# EAGLE library part IMU (library quadparts_michael)
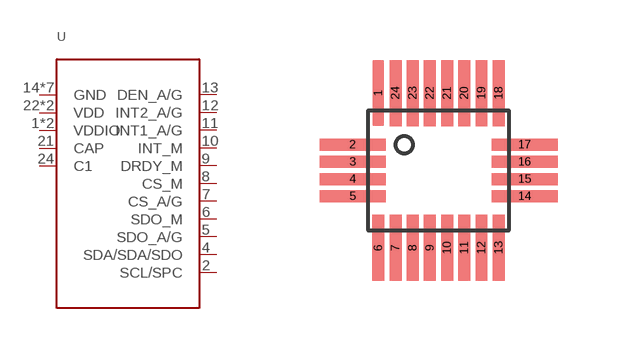
[diagram p0: symbol with the pads of IMU_LSM9DS1TR; footprint IMU_LSM9DS1TR]

Designator prefix -

## IMU (CREATOR: Michael M. Gonzalez; DIST: Digikey; DISTPN: 497-14946-1-ND; MFR: STMicroelectronics; MPN: LSM9DS1TR)  [IMU_LSM9DS1TR]
1  VDDIO
2  SCL/SPC
3  VDDIO
4  SDA/SDA/SDO
5  SDO_A/G
6  SDO_M
7  CS_A/G
8  CS_M
9  DRDY_M
10  INT_M
11  INT1_A/G
12  INT2_A/G
13  DEN_A/G
14  GND
15  GND
16  GND
17  GND
18  GND
19  GND
20  GND
21  CAP
22  VDD
23  VDD
24  C1

## Footprint IMU_LSM9DS1TR (pad centres in mm)
smd 0.3 x 1.65: 1 -1.129,1.827; 6 -1.129,-2.042; 7 -0.699,-2.042; 8 -0.269,-2.042; 9 0.161,-2.042; 10 0.591,-2.042; 11 1.021,-2.042; 12 1.451,-2.042; 13 1.881,-2.042; 18 1.881,1.827; 19 1.451,1.827; 20 1.021,1.827; 21 0.591,1.827; 22 0.161,1.827; 23 -0.269,1.827; 24 -0.699,1.827
smd 1.65 x 0.3: 2 -1.774,0.537; 3 -1.774,0.107; 4 -1.774,-0.323; 5 -1.774,-0.752; 14 2.526,-0.752; 15 2.526,-0.323; 16 2.526,0.107; 17 2.526,0.537